# Altium footprint library PCB - LEADED - SOIC - SOIC-8.PcbLib: 7 footprints
Each footprint in its own frame and in the unit in brackets; x right, y up, seen from the top. Pads: shape width x height; smd on the part's side, far side on the other; paste and mask are expansions set on the pad; w line width, h text height; cw(c..) or ccw(c..) is an arc to the next point about the centre after c.
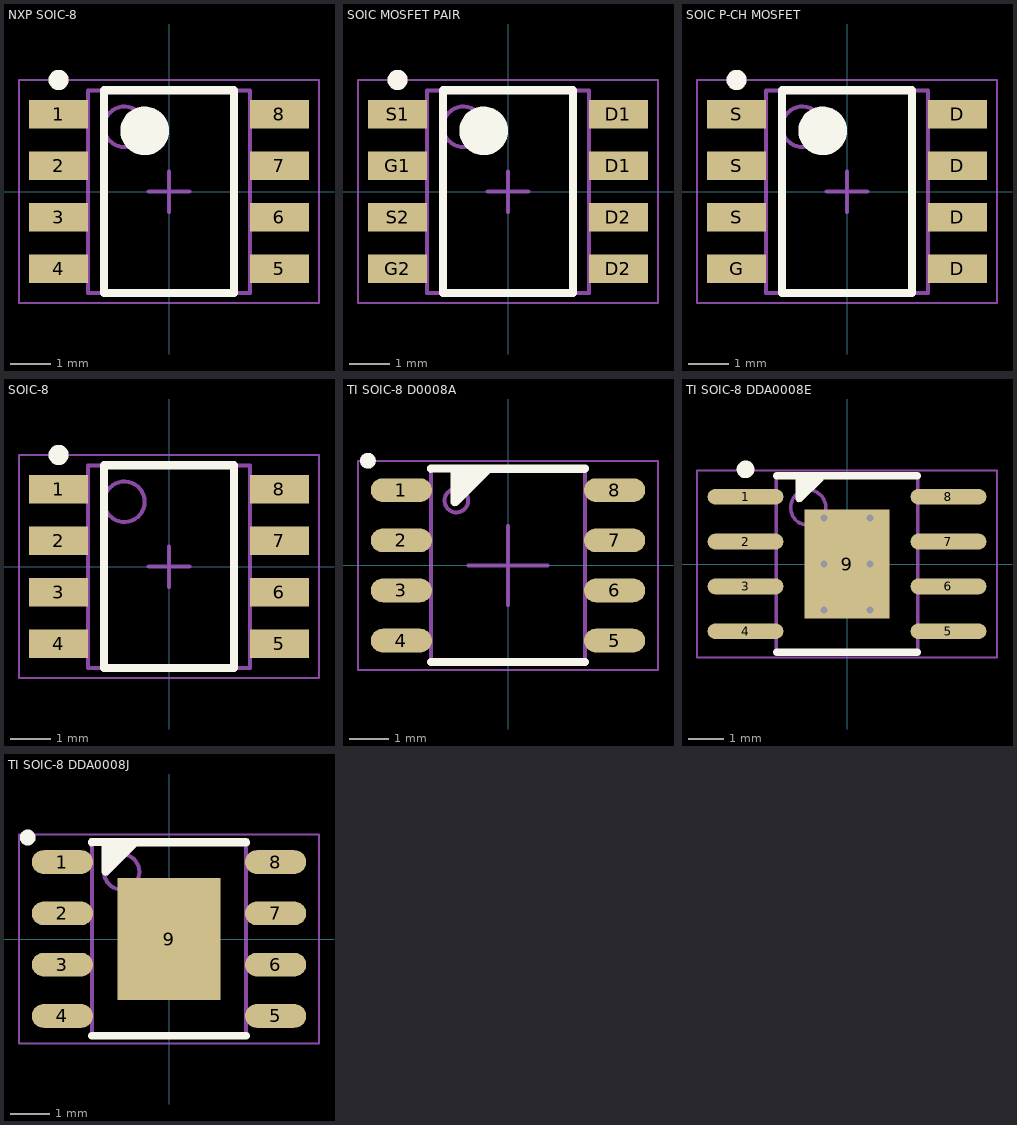
[diagram p0: the footprints below, top view; thin cyan lines are the x and y axes]

## NXP SOIC-8 [mm] "SOIC, 8-Leads, Body 4.90x3.90mm, Pitch 1.27mm, IPC Medium Density"
height 1.75
pads (8):
  rect 1.45x0.7 smd: 1(-2.725,1.905) 2(-2.725,0.635) 3(-2.725,-0.635) 4(-2.725,-1.905) 5(2.725,-1.905) 6(2.725,-0.635) 7(2.725,0.635) 8(2.725,1.905)
Top Overlay:
  circle w0.25: c-2.725,2.755 r0.125
  circle w0.6: c-0.6,1.5 r0.3
  lines w0.2: -1.6,-2.5 -1.6,2.5 1.6,2.5 1.6,-2.5 -1.6,-2.5
Mechanical 13:
  circle w0.1: c-1.1,1.6 r0.5
  lines w0.1: -2,-2.5 -2,2.5 2,2.5 2,-2.5 -2,-2.5
Mechanical 15:
  lines w0.05: -3.7,-2.75 -3.7,2.75 3.7,2.75 3.7,-2.75 -3.7,-2.75
  lines w0.1: -0.5,0 0.5,0 ; 0,-0.5 0,0.5
3D body "SOIC127P600X175-8N.step": height 1.75, standoff 0, extent -3,-2.5 3,2.5

## SOIC MOSFET PAIR [mm] "SOIC, 8-Leads, Body 4.90x3.90mm, Pitch 1.27mm, IPC Medium Density"
height 1.75
pads (8):
  rect 1.45x0.7 smd: D1(2.725,0.635) D1(2.725,1.905) D2(2.725,-1.905) D2(2.725,-0.635) G1(-2.725,0.635) G2(-2.725,-1.905) S1(-2.725,1.905) S2(-2.725,-0.635)
Top Overlay:
  circle w0.6: c-0.6,1.5 r0.3
  circle w0.25: c-2.725,2.755 r0.125
  lines w0.2: -1.6,-2.5 1.6,-2.5 1.6,2.5 -1.6,2.5 -1.6,-2.5
Mechanical 13:
  circle w0.1: c-1.1,1.6 r0.5
  lines w0.1: -2,-2.5 2,-2.5 2,2.5 -2,2.5 -2,-2.5
Mechanical 15:
  lines w0.05: -3.7,-2.75 3.7,-2.75 3.7,2.75 -3.7,2.75 -3.7,-2.75
  lines w0.1: -0.5,0 0.5,0 ; 0,-0.5 0,0.5
3D body "SOIC127P600X175-8N.step": height 1.75, standoff 0, extent -3,-2.5 3,2.5

## SOIC P-CH MOSFET [mm] "SOIC, 8-Leads, Body 4.90x3.90mm, Pitch 1.27mm, IPC Medium Density"
height 1.75
pads (8):
  rect 1.45x0.7 smd: D(2.725,-1.905) D(2.725,-0.635) D(2.725,0.635) D(2.725,1.905) G(-2.725,-1.905) S(-2.725,-0.635) S(-2.725,0.635) S(-2.725,1.905)
Top Overlay:
  circle w0.25: c-2.725,2.755 r0.125
  circle w0.6: c-0.6,1.5 r0.3
  lines w0.2: -1.6,-2.5 -1.6,2.5 1.6,2.5 1.6,-2.5 -1.6,-2.5
Mechanical 13:
  circle w0.1: c-1.1,1.6 r0.5
  lines w0.1: -2,-2.5 -2,2.5 2,2.5 2,-2.5 -2,-2.5
Mechanical 15:
  lines w0.05: -3.7,-2.75 -3.7,2.75 3.7,2.75 3.7,-2.75 -3.7,-2.75
  lines w0.1: -0.5,0 0.5,0 ; 0,-0.5 0,0.5
3D body "SOIC127P600X175-8N.step": height 1.75, standoff 0, extent -3,-2.5 3,2.5

## SOIC-8 [mm] "SOIC, 8-Leads, Body 4.90x3.90mm, Pitch 1.27mm, IPC Medium Density"
height 1.75
pads (8):
  rect 1.45x0.7 smd: 1(-2.725,1.905) 2(-2.725,0.635) 3(-2.725,-0.635) 4(-2.725,-1.905) 5(2.725,-1.905) 6(2.725,-0.635) 7(2.725,0.635) 8(2.725,1.905)
Top Overlay:
  circle w0.25: c-2.725,2.755 r0.125
  lines w0.2: -1.6,-2.5 -1.6,2.5 1.6,2.5 1.6,-2.5 -1.6,-2.5
Mechanical 13:
  circle w0.1: c-1.1,1.6 r0.5
  lines w0.1: -2,-2.5 -2,2.5 2,2.5 2,-2.5 -2,-2.5
Mechanical 15:
  lines w0.05: -3.7,-2.75 -3.7,2.75 3.7,2.75 3.7,-2.75 -3.7,-2.75
  lines w0.1: -0.5,0 0.5,0 ; 0,-0.5 0,0.5
3D body "SOIC127P600X175-8N.step": height 1.75, standoff 0, extent -3,-2.5 3,2.5

## TI SOIC-8 D0008A [mm] "Package SOIC-8, 8-Leades, 4.90 x 3.89 mm Body , Pitch 1.27 mm"
height 1.75
pads (8):
  oval 1.55x0.6 smd: 1(-2.7,1.905) 2(-2.7,0.635) 3(-2.7,-0.635) 4(-2.7,-1.905) 5(2.7,-1.905) 6(2.7,-0.635) 7(2.7,0.635) 8(2.7,1.905)
Top Overlay:
  circle w0.2: c-3.55,2.65 r0.1
  region: -1.947,2.352 -1.45,2.352 -1.45,1.6 -1.45,1.57 -1.417,1.519 -1.36,1.496 -1.301,1.507 -1.279,1.529 -0.456,2.352 1.947,2.352 1.967,2.352 2.004,2.367 2.033,2.396 2.048,2.432 2.048,2.452 2.048,2.472 2.033,2.509 2.004,2.538 1.967,2.553 1.947,2.553 -1.947,2.553 -1.989,2.553 -2.047,2.494 -2.047,2.411 -1.989,2.352
  lines w0.2: -1.947,-2.452 1.947,-2.452 ; -1.947,2.452 1.947,2.452 ; -1.35,2.45 -1.35,1.6 -0.5,2.45
Mechanical 13:
  circle w0.1: c-1.309,1.641 r0.3
  lines w0.1: -1.947,-2.452 -1.947,2.452 1.947,2.452 1.947,-2.452 -1.947,-2.452
Mechanical 15:
  lines w0.05: -3.8,-2.65 -3.8,2.65 3.8,2.65 3.8,-2.65 -3.8,-2.65
  lines w0.1: -1,0 0,0 ; 0,-1 0,0 ; 0,1 0,0 ; 1,0 0,0
3D body "TI - SOIC-8 - D008A v3.STEP": height 1.75, standoff 0, extent -3,-2.452 3,2.452

## TI SOIC-8 DDA0008E [mm] "SOIC, 8-Leads, Body 4.90x3.90mm, Pitch 1.27mm, Thermal Pad 3.10x2.40mm, IPC Medium Density"
height 1.7
pads (9):
  oval 2.15x0.45 smd: 1(-2.875,1.905) 2(-2.875,0.635) 3(-2.875,-0.635) 4(-2.875,-1.905) 5(2.875,-1.905) 6(2.875,-0.635) 7(2.875,0.635) 8(2.875,1.905)
  rect 2.4x3.1 smd: 9(0,0)
via 0.65,-1.3 diameter 0.5 hole 0.2
via -0.65,-1.3 diameter 0.5 hole 0.2
via 0.65,0 diameter 0.5 hole 0.2
via -0.65,0 diameter 0.5 hole 0.2
via 0.65,1.3 diameter 0.5 hole 0.2
via -0.65,1.3 diameter 0.5 hole 0.2
Top Overlay:
  circle w0.25: c-2.875,2.68 r0.125
  region: -1.45,1.85 -1.45,2.4 -1.6,2.4 -1.642,2.4 -1.7,2.458 -1.7,2.542 -1.642,2.6 -1.6,2.6 1.6,2.6 1.62,2.6 1.657,2.585 1.685,2.557 1.7,2.52 1.7,2.5 1.7,2.48 1.685,2.443 1.657,2.415 1.62,2.4 1.6,2.4 -0.663,2.4 -0.665,2.397 -0.668,2.391 -0.672,2.386 -0.677,2.381 -0.679,2.379 -1.279,1.779 -1.301,1.757 -1.36,1.746 -1.417,1.769 -1.45,1.82
  lines w0.2: -2,-2.5 2,-2.5 ; -2,2.5 2,2.5 ; -1.35,2.5 -1.35,1.85 -0.75,2.45
Mechanical 13:
  circle w0.1: c-1.1,1.6 r0.5
  lines w0.1: -2,-2.5 2,-2.5 2,2.5 -2,2.5 -2,-2.5
Mechanical 15:
  lines w0.05: -4.25,-2.65 4.25,-2.65 4.25,2.65 -4.25,2.65 -4.25,-2.65
  lines w0.1: -0.5,0 0.5,0 ; 0,-0.5 0,0.5
3D body "TI - SOIC-8 - DDA0008E v2.step": height 1.7, standoff 0, extent -3.032,-2.45 3.032,2.45

## TI SOIC-8 DDA0008J [mm] "SOIC-8 Package , 8-Leades, 4.90 x 3.90 mm Body , Pitch 1.27 mm"
height 1.7
pads (9):
  oval 1.55x0.6 smd: 1(-2.7,1.95) 2(-2.7,0.65) 3(-2.7,-0.65) 4(-2.7,-1.95) 5(2.7,-1.95) 6(2.7,-0.65) 7(2.7,0.65) 8(2.7,1.95)
  rect 2.6x3.1 smd: 9(0,0)
Top Overlay:
  circle w0.2: c-3.58,2.57 r0.1
  region: -1.95,2.35 -1.7,2.35 -1.7,1.71 -1.7,1.68 -1.667,1.629 -1.61,1.606 -1.551,1.617 -1.529,1.639 -0.818,2.35 1.95,2.35 1.97,2.35 2.007,2.365 2.035,2.393 2.05,2.43 2.05,2.45 2.05,2.47 2.035,2.507 2.007,2.535 1.97,2.55 1.95,2.55 -1.95,2.55 -1.992,2.55 -2.05,2.492 -2.05,2.408 -1.992,2.35
  lines w0.2: -1.95,-2.45 1.95,-2.45 ; -1.95,2.45 1.95,2.45 ; -1.6,2.4 -1.6,1.71 -0.875,2.435
Mechanical 13:
  circle w0.1: c-1.2,1.7 r0.447
  lines w0.1: -1.95,-2.45 -1.95,2.45 1.95,2.45 1.95,-2.45 -1.95,-2.45
Mechanical 15:
  lines w0.05: -3.8,-2.65 -3.8,2.65 3.8,2.65 3.8,-2.65 -3.8,-2.65
  lines w0.1: -1,0 0,0 ; 0,-1 0,0 ; 0,1 0,0 ; 1,0 0,0
3D body "TI - SOIC-8 - DDA0008J v2.step": height 1.7, standoff 0, extent -3,-2.45 3,2.45